# Altium schematic symbol library negm_2.SchLib: 5 symbols
Pins are listed as number, name and electrical type; pins without a type are passive.

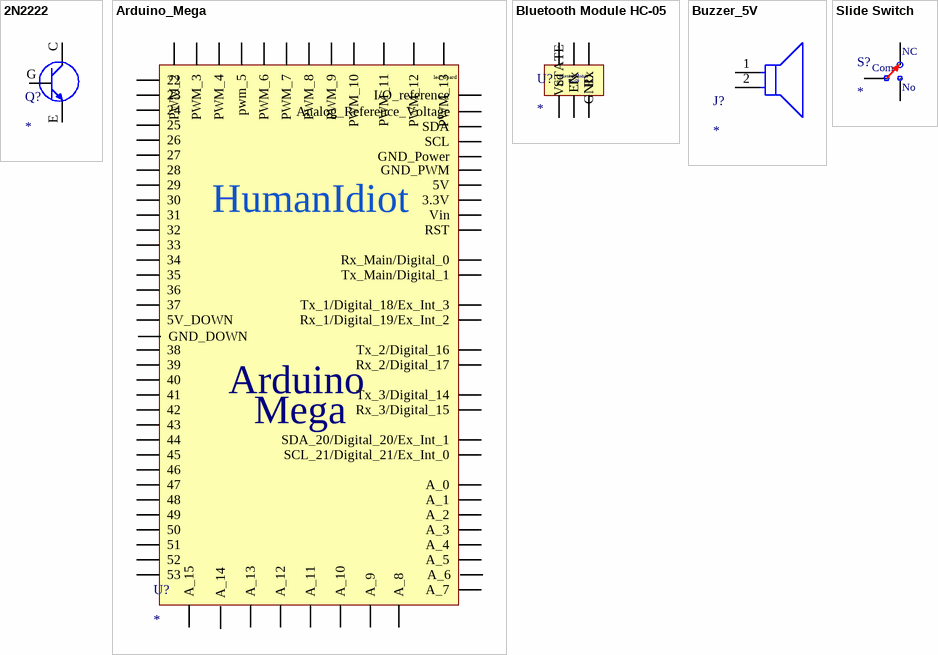
[diagram p0: symbols 2N2222 to Slide Switch]

## 2N2222
designator Q?
footprint 2N2222
pins: C, E, G

## Arduino_Mega
designator U?
Arduino_Mega
footprint Arduino_Mega
pins: 3.3V, 5V, 5V_DOWN, 22, 23, 24, 25, 26, 27, 28, 29, 30, 31, 32, 33, 34, 35, 36, 37, 38, 39, 40, 41, 42, 43, 44, 45, 46, 47, 48, 49, 50, 51, 52, 53, A_0, A_1, A_2, A_3, A_4, A_5, A_6, A_7, A_8, A_9, A_10, A_11, A_12, A_13, A_14, A_15, GND_DOWN, GND_POWER GND_Power, GND_PWM, PWM_2, PWM_3, PWM_4, PWM_5 pwm_5, PWM_6, PWM_7, PWM_8, PWM_9, PWM_10, PWM_11, PWM_12, PWM_13, REF Analog_Reference_Voltage, REF_I/O I/O_reference, RST, Rx_0 Rx_Main/Digital_0, Rx_15 Rx_3/Digital_15, Rx_17 Rx_2/Digital_17, Rx_19 Rx_1/Digital_19/Ex_Int_2, SCL, SCL_21 SCL_21/Digital_21/Ex_Int_0, SDA, SDA_20 SDA_20/Digital_20/Ex_Int_1, Tx_1 Tx_Main/Digital_1, Tx_14 Tx_3/Digital_14, Tx_16 Tx_2/Digital_16, Tx_18 Tx_1/Digital_18/Ex_Int_3, Vin
text: led_board; HumanIdiot; Arduino; Mega

## Bluetooth Module HC-05
designator U?
Voltage: 3.6 V-6 V connected to the VCC pin / Communication leads are working with voltage 3.3 V (tolerate 5 V) / Current consumption: approx. 50 mA / Class 2 – maximum transmitter power + 4 dBm / Range: up to 10 m / The password for pairing: 1234 / Standard: Bluetooth 2.0 + EDR / The SPP profile with possibility to configure via AT commands / Communication: UART (RX, TX) / Small dimensions: 39 x 16 mm
footprint Bluetooth Module HC-05 (Voltage: 3.6 V-6 V connected to the VCC pin / Communication leads are working with voltage 3.3 V (tolerate 5 V) / Current consumption: approx. 50 mA / Class 2 – maximum transmitter power + 4 dBm / Range: up to 10 m / The password for pairing: 1234 / Standard: Bluetooth 2.0 + EDR / The SPP profile with possibility to configure via AT commands / Communication: UART (RX, TX) / Small dimensions: 39 x 16 mm)
pins: EN, GND, Rx, STATE, Tx, Vcc
text: Bluetooth Module; HC-05

## Buzzer_5V
designator J?
footprint Buzzer_5V_14mm (FP-PS1440P02BT-MFG)
pins: 1, 2

## Slide Switch
designator S?
Slide Switch Right-Angle SPDT 50V 0.5A Plugin for PCB
footprint Slide Switch (Slide Switch Right-Angle SPDT 50V 0.5A Plugin for PCB)
pins: 1, 2, 3
text: NC; Com; No